# Altium footprint library SULLINS NPPN101BFCN.PCBLIB: 1 footprints
Each footprint in its own frame and in the unit in brackets; x right, y up, seen from the top. Pads: shape width x height; smd on the part's side, far side on the other; paste and mask are expansions set on the pad; w line width, h text height; cw(c..) or ccw(c..) is an arc to the next point about the centre after c.
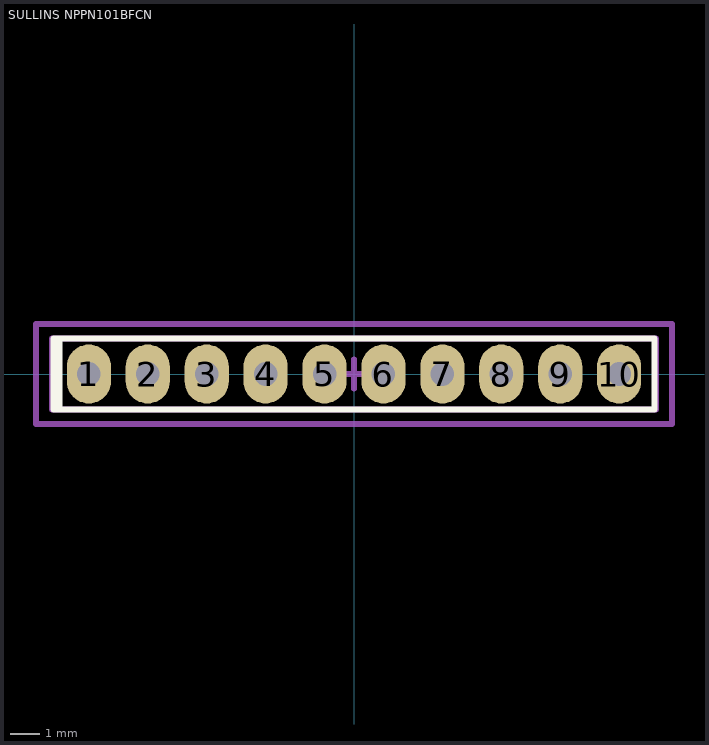
[diagram p0: the footprint, top view; thin cyan lines are the x and y axes]

## SULLINS NPPN101BFCN [mm]
height 4.4
pads (10):
  oval 1.5x2 hole 0.8: 1(-9,0) 2(-7,0) 3(-5,0) 4(-3,0) 5(-1,0) 6(1,0) 7(3,0) 8(5,0) 9(7,0) 10(9,0)
Top Overlay:
  lines w0.2: -10,-1.2 -10,1.2 ; -10.2,-1.2 10.2,-1.2 10.2,1.2 -10.2,1.2 -10.2,-1.2
Mechanical 1:
  lines w0.2: -10.25,-1.2 10.25,-1.2 10.25,1.2 -10.25,1.2 -10.25,-1.2
Mechanical 15:
  lines w0.2: -0.5,0 0.5,0 ; 0,-0.5 0,0.5 ; -10.8,-1.7 -10.8,1.7 10.8,1.7 10.8,-1.7 -10.8,-1.7
3D body "Sullins NPPN101BFCN-RC.STEP": height 4.41, standoff -2.39, extent -10.25,-1.2 10.25,1.2